# EAGLE library part 691325110007 (library Wurth_Connectors_WR-TBL Pluggable Connector)
WR-TBL Serie 3251 - 3.50 mm Horizontal PCB Header with Flanges KIND PROPERTIES Pitch 3.5 mm MATERIAL PROPERTIES Insulator Material PA66 Insulator Flammability Rating UL94 V-0 Contact Material Brass Contact Plating Tin GENERAL INFORMATION Operating Temperature -40 up to +105 °C Compliance RoHS ELECTRICAL PROPERTIES IR cULus 10 A IR VDE 10.5 A Working Voltage [cULus] 300 V (AC) Working Voltage [VDE] 300 V (AC) Withstanding Voltage [cULus] 1600 V (AC) Withstanding Voltage [VDE] 2500 V (AC) Contact Resistance [cULus] 20 mΩ Contact Resistance [VDE] 20 mΩ CERTIFICATION cULus Approval E315414 VDE Approval 40023195 <https://www.we-online.com/catalog/media/o33340v209%20Family_WR-TLB_69132511000x.jpg> Details see: https://www.we-online.com/catalog/en/TBL_3_50_3251_HORIZONTAL_PCB_HEADER_W_FLANGES_69132511000X/ Updated by Ella Wu 2019-12-18 2022(C) Wurth Elektronik
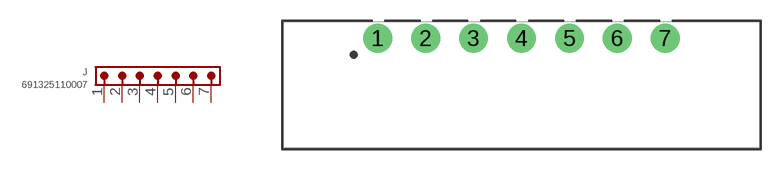
[diagram p81: symbol with the pads of 691325110007; footprint 691325110007]

Designator prefix J

## 691325110007 (DATASHEET-URL: https://www.we-online.com/redexpert/spec/691325110007?ae; IR-UL: 10A; IR-VDE: 10.5A; MOUNT: THT; PART-NUMBER: 691325110007; PINS: 7; PITCH: 3.5mm; TYPE: Horizontal; VALUE: 691325110007; WORKING-VOLTAGE-UL: 300V (AC); WORKING-VOLTAGE-VDE: 300V (AC))  [691325110007]
1  1  pas
2  2  pas
3  3  pas
4  4  pas
5  5  pas
6  6  pas
7  7  pas

## Footprint 691325110007 (pad centres in mm)
WR-TBL Serie 3251 - 3.50 mm Horizontal PCB Header with Flanges Max Height = 7.2mm , Pitch 3.5mm , 7pins
drill 1.4: 1 -10.5,0; 2 -7,0; 3 -3.5,0; 4 0,0; 5 3.5,0; 6 7,0; 7 10.5,0